# EAGLE library part MCP3301 (library ic)
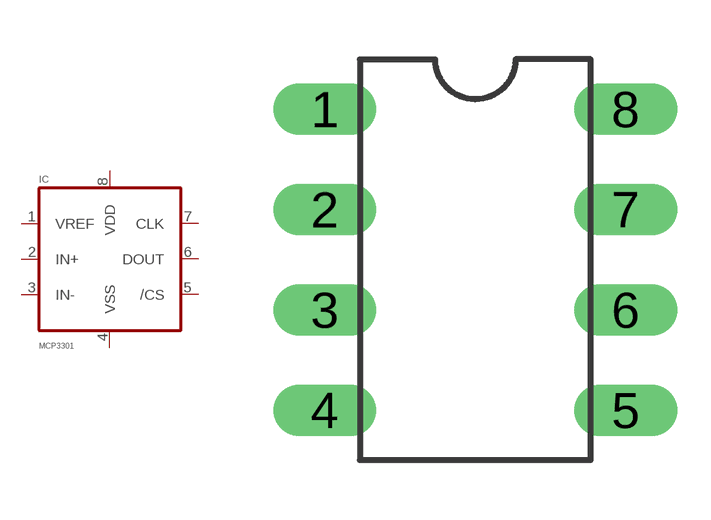
[diagram p40: symbol with the pads of DIL08; footprint DIL08]

Designator prefix IC

## MCP3301  [DIL08]
1  VREF  in
2  IN+  in
3  IN-  in
4  VSS  pwr
5  /CS  in
6  DOUT  pas
7  CLK  out
8  VDD  pwr

## Footprint DIL08 (pad centres in mm)
Dual In Line Package
drill 0.8 pad 1.27 long: 1 -3.81,3.81; 2 -3.81,1.27; 3 -3.81,-1.27; 4 -3.81,-3.81; 5 3.81,-3.81; 6 3.81,-1.27; 7 3.81,1.27; 8 3.81,3.81